# EAGLE library part TR-1PRI-CT-2SEC (library transformers)
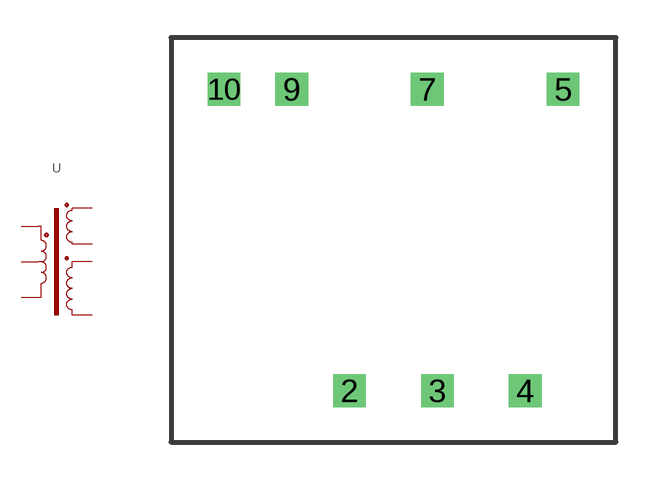
[diagram p1: symbol with the pads of TR-FLYBACK-5VSB; footprint TR-FLYBACK-5VSB]

Designator prefix -

## TR-1PRI-CT-2SEC  [TR-FLYBACK-5VSB]
2  PRI_B  pas
3  PRI_C  pas
4  PRI_A  pas
5  SEC2_A  pas
7  SEC2_B  pas
9  SEC1_A  pas
10  SEC1_B  pas

## Footprint TR-FLYBACK-5VSB (pad centres in mm)
random ass flyback transformer salvaged from a PC +5VSB supply
drill 0.8 square: 2 -1.75,-6; 3 1.75,-6; 4 5.25,-6; 5 6.75,6; 7 1.35,6; 9 -4.05,6; 10 -6.75,6